# EAGLE library part PCB_MPPT (library EL_POTENCIA_LIBRERIA_VES2018)
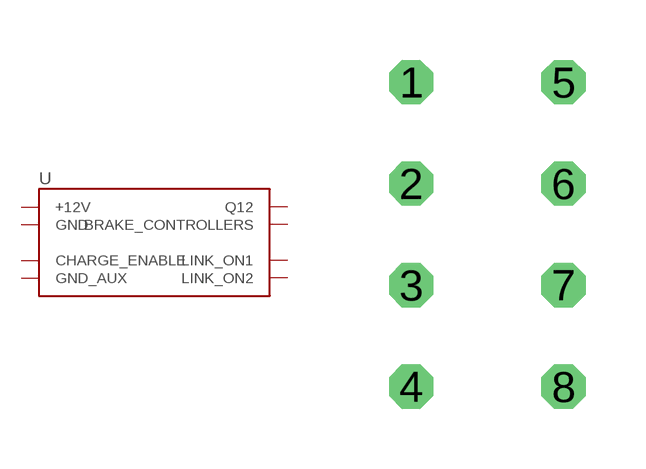
[diagram p17: symbol with the pads of PCB_MPPT; footprint PCB_MPPT]

Designator prefix -

## PCB_MPPT  [PCB_MPPT]
1  +12V
2  BRAKE_CONTROLLERS
3  CHARGE_ENABLE
4  GND
5  GND_AUX
6  LINK_ON1
7  LINK_ON2
8  Q12

## Footprint PCB_MPPT (pad centres in mm)
drill 0.6 octagon: 1 -6.35,6.35; 2 -6.35,3.81; 3 -6.35,1.27; 4 -6.35,-1.27; 5 -2.54,6.35; 6 -2.54,3.81; 7 -2.54,1.27; 8 -2.54,-1.27